# Altium schematic symbol library TZM5248B-GS08.SchLib: 1 symbol
Pins are listed as number, name and electrical type; pins without a type are passive.

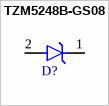
[diagram p0: symbol TZM5248B-GS08]

## TZM5248B-GS08
designator D?  (value not drawn)
Zener Diodes 18 Volt 0.5 Watt; Manufacturer: Vishay Semiconductors; Zener Current: 200mA; Tolerance: 5%; Zener Voltage: 18V; ComponentLink1URL: https://www.mouser.com/datasheet/2/427/tzm5221-1767816.pdf; ComponentLink1Description: Datasheet; PN: TZM5248B-GS08; Supplier 1: Mouser; Supplier Part Number 1: 78-TZM5248B; Package: SOD-80; Footprint: SOD-80
footprint SOD-80
pins: 1 C, 2 A